# Altium footprint library pag7935.PcbLib: 2 footprints
Each footprint in its own frame and in the unit in brackets; x right, y up, seen from the top. Pads: shape width x height; smd on the part's side, far side on the other; paste and mask are expansions set on the pad; w line width, h text height; cw(c..) or ccw(c..) is an arc to the next point about the centre after c.
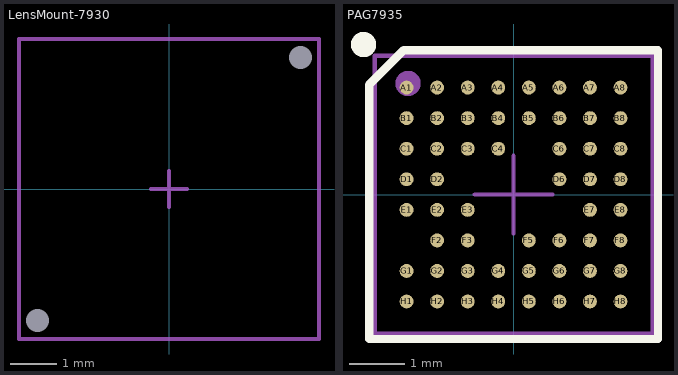
[diagram p0: the footprints below, top view; thin cyan lines are the x and y axes]

## LensMount-7930 [mm]
pads (2):
  round 0 hole 0.5 unplated mask+0.05: 0(-2.85,-2.85) 0(2.85,2.85)
Top 3D Body (Mech13):
  lines w0.076: -0.4,0 0,0 ; 0,-0.4 0,0 ; 0,0.4 0,0 ; 0.4,0 0,0 ; -3.25,-3.25 3.25,-3.25 3.25,3.25 -3.25,3.25 -3.25,-3.25

## PAG7935 [mm]
pads (55):
  round 0.25 smd mask+0.051: A1(-1.925,1.925) A2(-1.375,1.925) A3(-0.825,1.925) A4(-0.275,1.925) A5(0.275,1.925) A6(0.825,1.925) A7(1.375,1.925) A8(1.925,1.925) B1(-1.925,1.375) B2(-1.375,1.375) B3(-0.825,1.375) B4(-0.275,1.375) B5(0.275,1.375) B6(0.825,1.375) B7(1.375,1.375) B8(1.925,1.375) C1(-1.925,0.825) C2(-1.375,0.825) C3(-0.825,0.825) C4(-0.275,0.825) C6(0.825,0.825) C7(1.375,0.825) C8(1.925,0.825) D1(-1.925,0.275) D2(-1.375,0.275) D6(0.825,0.275) D7(1.375,0.275) D8(1.925,0.275) E1(-1.925,-0.275) E2(-1.375,-0.275) E3(-0.825,-0.275) E7(1.375,-0.275) E8(1.925,-0.275) F2(-1.375,-0.825) F3(-0.825,-0.825) F5(0.275,-0.825) F6(0.825,-0.825) F7(1.375,-0.825) F8(1.925,-0.825) G1(-1.925,-1.375) G2(-1.375,-1.375) G3(-0.825,-1.375) G4(-0.275,-1.375) G5(0.275,-1.375) G6(0.825,-1.375) G7(1.375,-1.375) G8(1.925,-1.375) H1(-1.925,-1.925) H2(-1.375,-1.925) H3(-0.825,-1.925) H4(-0.275,-1.925) H5(0.275,-1.925) H6(0.825,-1.925) H7(1.375,-1.925) H8(1.925,-1.925)
Top Overlay:
  circle w0.254: c-2.7,2.7 r0.1
  lines w0.152: -2.6,-2.6 -2.6,1.977 -1.977,2.6 2.6,2.6 2.6,-2.6 -2.6,-2.6
Top 3D Body (Mech13):
  circle w0.254: c-1.9,2 r0.1
  lines w0.076: -0.7,0 0,0 ; 0,-0.7 0,0 ; 0,0.7 0,0 ; 0.7,0 0,0 ; -2.5,-2.5 -2.5,2.5 2.5,2.5 2.5,-2.5 -2.5,-2.5
3D body: height 0.8, standoff 0, extent -2.5,-2.5 2.5,2.5